# EAGLE library part RF_SWITCH (library 1AA_Stofer)
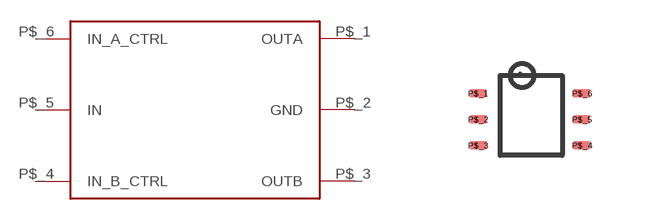
[diagram p25: symbol with the pads of RF_SWITCH; footprint RF_SWITCH]

Designator prefix -

## RF_SWITCH  [RF_SWITCH]
P$_1  OUTA
P$_2  GND
P$_3  OUTB
P$_4  IN_B_CTRL
P$_5  IN
P$_6  IN_A_CTRL

## Footprint RF_SWITCH (pad centres in mm)
smd 0.4 x 0.2: P$_1 3.9,4.55; P$_2 3.9,3.9; P$_3 3.9,3.25; P$_4 6.499,3.25; P$_5 6.499,3.9; P$_6 6.499,4.55